# Altium footprint library a3.PcbLib: 56 footprints (part 4 of 4)
Each footprint in its own frame and in the unit in brackets; x right, y up, seen from the top. Pads: shape width x height; smd on the part's side, far side on the other; paste and mask are expansions set on the pad; w line width, h text height; cw(c..) or ccw(c..) is an arc to the next point about the centre after c.
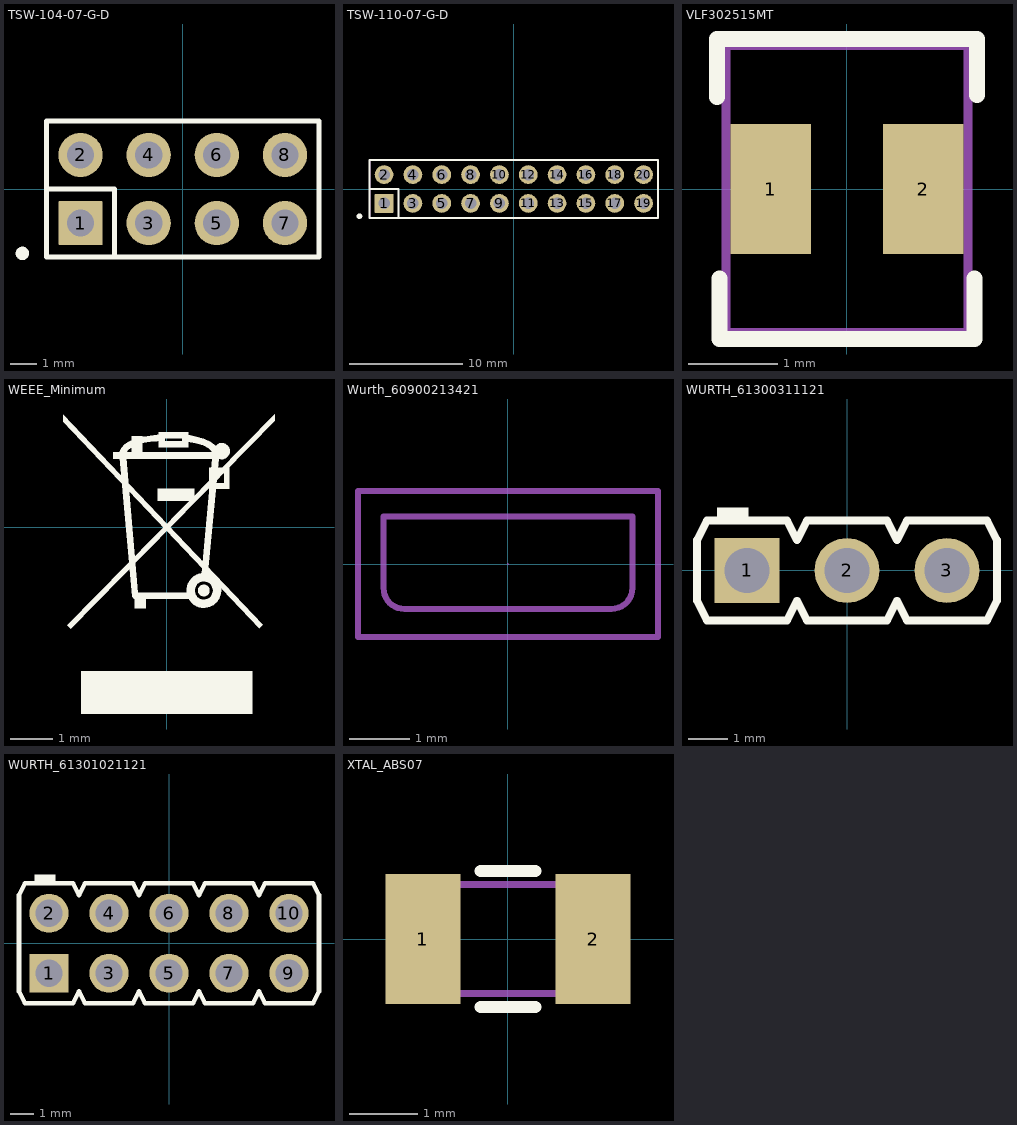
[diagram p3: the footprints below, top view; thin cyan lines are the x and y axes]

## TSW-104-07-G-D [mm] "Samtec 100mil, 2x4, 230 mil above insulator"
height 8.382
pads (8):
  rrect6% 1.65x1.65 hole 1.016: 1(-3.81,-1.27)
  round 1.65 hole 1.016: 2(-3.81,1.27) 3(-1.27,-1.27) 4(-1.27,1.27) 5(1.27,-1.27) 6(1.27,1.27) 7(3.81,-1.27) 8(3.81,1.27)
Top Overlay:
  circle w0.25: c-5.98,-2.4 r0.125
  lines w0.178: -5.08,0 -2.54,0 -2.54,-2.54 ; -5.08,-2.54 5.08,-2.54 5.08,2.54 -5.08,2.54 -5.08,-2.54
Mechanical 5:
  rectangle: -4.318,-1.778 -3.302,-0.762
  lines w0.127: -5.08,-2.54 -5.08,2.54 5.08,2.54 5.08,-2.54 -5.08,-2.54
  text ".Designator" at -1.524,-0.508 h1.02
3D body "SamtecTSW-07_4x2.stp": height 8.38, standoff -2.54, extent -5.08,-2.54 5.08,2.54

## TSW-110-07-G-D [mm] "Samtec 100mil, 2x10, 230 mil above insulator"
height 8.382
pads (20):
  rrect6% 1.65x1.65 hole 1.016: 1(-11.43,-1.27)
  round 1.65 hole 1.016: 2(-11.43,1.27) 3(-8.89,-1.27) 4(-8.89,1.27) 5(-6.35,-1.27) 6(-6.35,1.27) 7(-3.81,-1.27) 8(-3.81,1.27) 9(-1.27,-1.27) 10(-1.27,1.27) 11(1.27,-1.27) 12(1.27,1.27) 13(3.81,-1.27) 14(3.81,1.27) 15(6.35,-1.27) 16(6.35,1.27) 17(8.89,-1.27) 18(8.89,1.27) 19(11.43,-1.27) 20(11.43,1.27)
Top Overlay:
  circle w0.25: c-13.6,-2.4 r0.125
  lines w0.178: -12.7,0 -10.16,0 -10.16,-2.54 ; -12.7,-2.54 -12.7,2.54 12.7,2.54 12.7,-2.54 -12.7,-2.54
Mechanical 5:
  rectangle: -11.938,-1.778 -10.922,-0.762
  lines w0.127: -12.7,-2.54 12.7,-2.54 12.7,2.54 -12.7,2.54 -12.7,-2.54
  text ".Designator" at -8.509,-0.508 h1.02
3D body "SamtecTSW-07_10x2.stp": height 8.38, standoff -2.54, extent -12.7,-2.54 12.7,2.54

## VLF302515MT [mm] "TDK"
height 1.5
pads (2):
  rect 0.9x1.45 smd: 1(-0.85,0) 2(0.85,0)
Top Overlay:
  lines w0.178: -1.45,1.025 -1.45,1.675 1.45,1.675 1.45,1.05 ; -1.425,-1 -1.425,-1.675 1.425,-1.675 1.425,-1
Mechanical 5:
  lines w0.1: -1.35,-1.6 -1.35,1.6 ; -1.35,-1.6 -1.35,1.6 ; -1.35,-1.6 1.35,-1.6 ; -1.35,-1.6 1.35,-1.6 ; -1.35,1.6 1.35,1.6 ; -1.35,1.6 1.35,1.6 ; 1.35,-1.6 1.35,1.6 ; 1.35,-1.6 1.35,1.6
  text ".Designator" at -0.381,0.508 h0.64
3D body: height 1.5, standoff 0, extent -1.349,-1.599 1.349,1.599

## WEEE_Minimum [mm] "WEEElie bin"
Top Overlay:
  drawing of 23 lines, arcs and shapes, not listed

## Wurth_60900213421 [mil] "Shunt, 2.54mm, Black"
height 240.94
pads (1):
  round 1 on Mech3: 0(0,0)
Mechanical 5:
  lines w3.94: -98.42,-48.03 98.43,-48.03 98.43,48.03 -98.42,48.03 -98.42,-48.03 ; -81.69,-15.71 ccw(c-67.89,-15.73) -67.91,-29.53 67.92,-29.53 ccw(c67.9,-15.73) 81.7,-15.71 81.7,31.3 -81.69,31.3 -81.69,-15.71
  text ".Designator" at -58.07,-11.81 h31.5
3D body "60900213421.stp": height 235.91, standoff 0.48, extent -98.42,-48.03 98.43,48.04

## WURTH_61300311121 [mm] "Header, 2.54mm, 3x1, TH"
height 8.89
pads (3):
  rect 1.65x1.65 hole 1.15: 1(-2.54,0)
  round 1.65 hole 1.15: 2(0,0) 3(2.54,0)
Top Overlay:
  rectangle: -3.3,1.3 -2.5,1.6
  lines w0.2: -3.81,-0.77 -3.56,-1.27 -1.52,-1.27 -1.27,-0.77 -1.02,-1.27 1.02,-1.27 1.27,-0.77 1.52,-1.27 3.56,-1.27 3.81,-0.77 3.81,0.77 3.56,1.27 1.52,1.27 1.27,0.77 1.02,1.27 -1.02,1.27 -1.27,0.77 -1.52,1.27 -3.56,1.27 -3.81,0.77 -3.81,-0.77
Mechanical 5:
  lines w0.1: -3.81,-0.77 -3.81,0.77 -3.56,1.27 -1.52,1.27 -1.27,0.77 -1.02,1.27 1.02,1.27 1.27,0.77 1.52,1.27 3.56,1.27 3.81,0.77 3.81,-0.77 3.56,-1.27 1.52,-1.27 1.27,-0.77 1.02,-1.27 -1.02,-1.27 -1.27,-0.77 -1.52,-1.27 -3.56,-1.27 -3.81,-0.77
  text ".Designator" at -1.524,-0.508 h1.02
3D body "61300311121.stp": height 8.54, standoff -3, extent -3.81,-1.27 3.81,1.27

## WURTH_61301021121 [mm] "Header, 2.54mm, 5x2, TH"
height 8.89
pads (10):
  rect 1.65x1.65 hole 1.15: 1(-5.08,-1.27)
  round 1.65 hole 1.15: 2(-5.08,1.27) 3(-2.54,-1.27) 4(-2.54,1.27) 5(0,-1.27) 6(0,1.27) 7(2.54,-1.27) 8(2.54,1.27) 9(5.08,-1.27) 10(5.08,1.27)
Top Overlay:
  rectangle: -5.7,2.6 -4.8,2.9
  lines w0.2: -6.35,-2.04 -6.1,-2.54 -4.06,-2.54 -3.81,-2.04 -3.56,-2.54 -1.52,-2.54 -1.27,-2.04 -1.02,-2.54 1.02,-2.54 1.27,-2.04 1.52,-2.54 3.56,-2.54 3.81,-2.04 4.06,-2.54 6.1,-2.54 6.35,-2.04 6.35,2.04 6.1,2.54 4.06,2.54 3.81,2.04 3.56,2.54 1.52,2.54 1.27,2.04 1.02,2.54 -1.02,2.54 -1.27,2.04 -1.52,2.54 -3.56,2.54 -3.81,2.04 -4.06,2.54 -6.1,2.54 -6.35,2.04 -6.35,-2.04
Mechanical 5:
  lines w0.1: -6.35,-2.04 -6.35,2.04 -6.1,2.54 -4.06,2.54 -3.81,2.04 -3.56,2.54 -1.52,2.54 -1.27,2.04 -1.02,2.54 1.02,2.54 1.27,2.04 1.52,2.54 3.56,2.54 3.81,2.04 4.06,2.54 6.1,2.54 6.35,2.04 6.35,-2.04 6.1,-2.54 4.06,-2.54 3.81,-2.04 3.56,-2.54 1.52,-2.54 1.27,-2.04 1.02,-2.54 -1.02,-2.54 -1.27,-2.04 -1.52,-2.54 -3.56,-2.54 -3.81,-2.04 -4.06,-2.54 -6.1,-2.54 -6.35,-2.04
  text ".Designator" at -1.524,-0.508 h1.02
3D body "61301021121.stp": height 8.54, standoff -3, extent -6.35,-2.54 6.35,2.54

## XTAL_ABS07 [mm] "ABRACON"
height 0.9
pads (2):
  rect 1.1x1.9 smd: 1(-1.25,0) 2(1.25,0)
Top Overlay:
  lines w0.178: -0.4,-1 0.4,-1 ; -0.4,1 0.4,1
Mechanical 5:
  lines w0.1: -1.65,-0.8 -1.65,0.8 1.65,0.8 1.65,-0.8 -1.65,-0.8
  text ".Designator" at -1.3,-0.4 h0.7
3D body: height 0.9, standoff 0.8, extent -1.649,-0.799 1.649,0.799
3D body: height 0.8, standoff 0, extent -1.649,-0.799 1.649,0.799